# Altium schematic symbol library EVQ-P2P02M.SchLib: 1 symbol
Pins are listed as number, name and electrical type; pins without a type are passive.

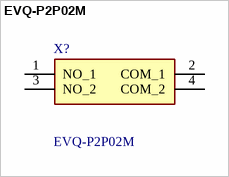
[diagram p0: symbol EVQ-P2P02M]

## EVQ-P2P02M
designator X?
Tactile Switches 4.7x3.5mm SMD Light Touch Switch; Manufacturer_Name: Panasonic; Geometry.Height: 2.3mm; Mouser Part Number: 667-EVQ-P2P02M; Mouser Price/Stock: https://www.mouser.co.uk/ProductDetail/Panasonic/EVQ-P2P02M?qs=WwqriLBepZtc43ACiW6Arw%3D%3D; Manufacturer_Part_Number: EVQ-P2P02M; Datasheet Link: https://componentsearchengine.com/Datasheets/1/EVQ-P2P02M.pdf
footprint EVQP2P02M
pins: 1 NO_1, 2 COM_1, 3 NO_2, 4 COM_2